# Altium footprint library con-ml.PCBLIB: 41 footprints (part 1 of 3)
Each footprint in its own frame and in the unit in brackets; x right, y up, seen from the top. Pads: shape width x height; smd on the part's side, far side on the other; paste and mask are expansions set on the pad; w line width, h text height; cw(c..) or ccw(c..) is an arc to the next point about the centre after c.
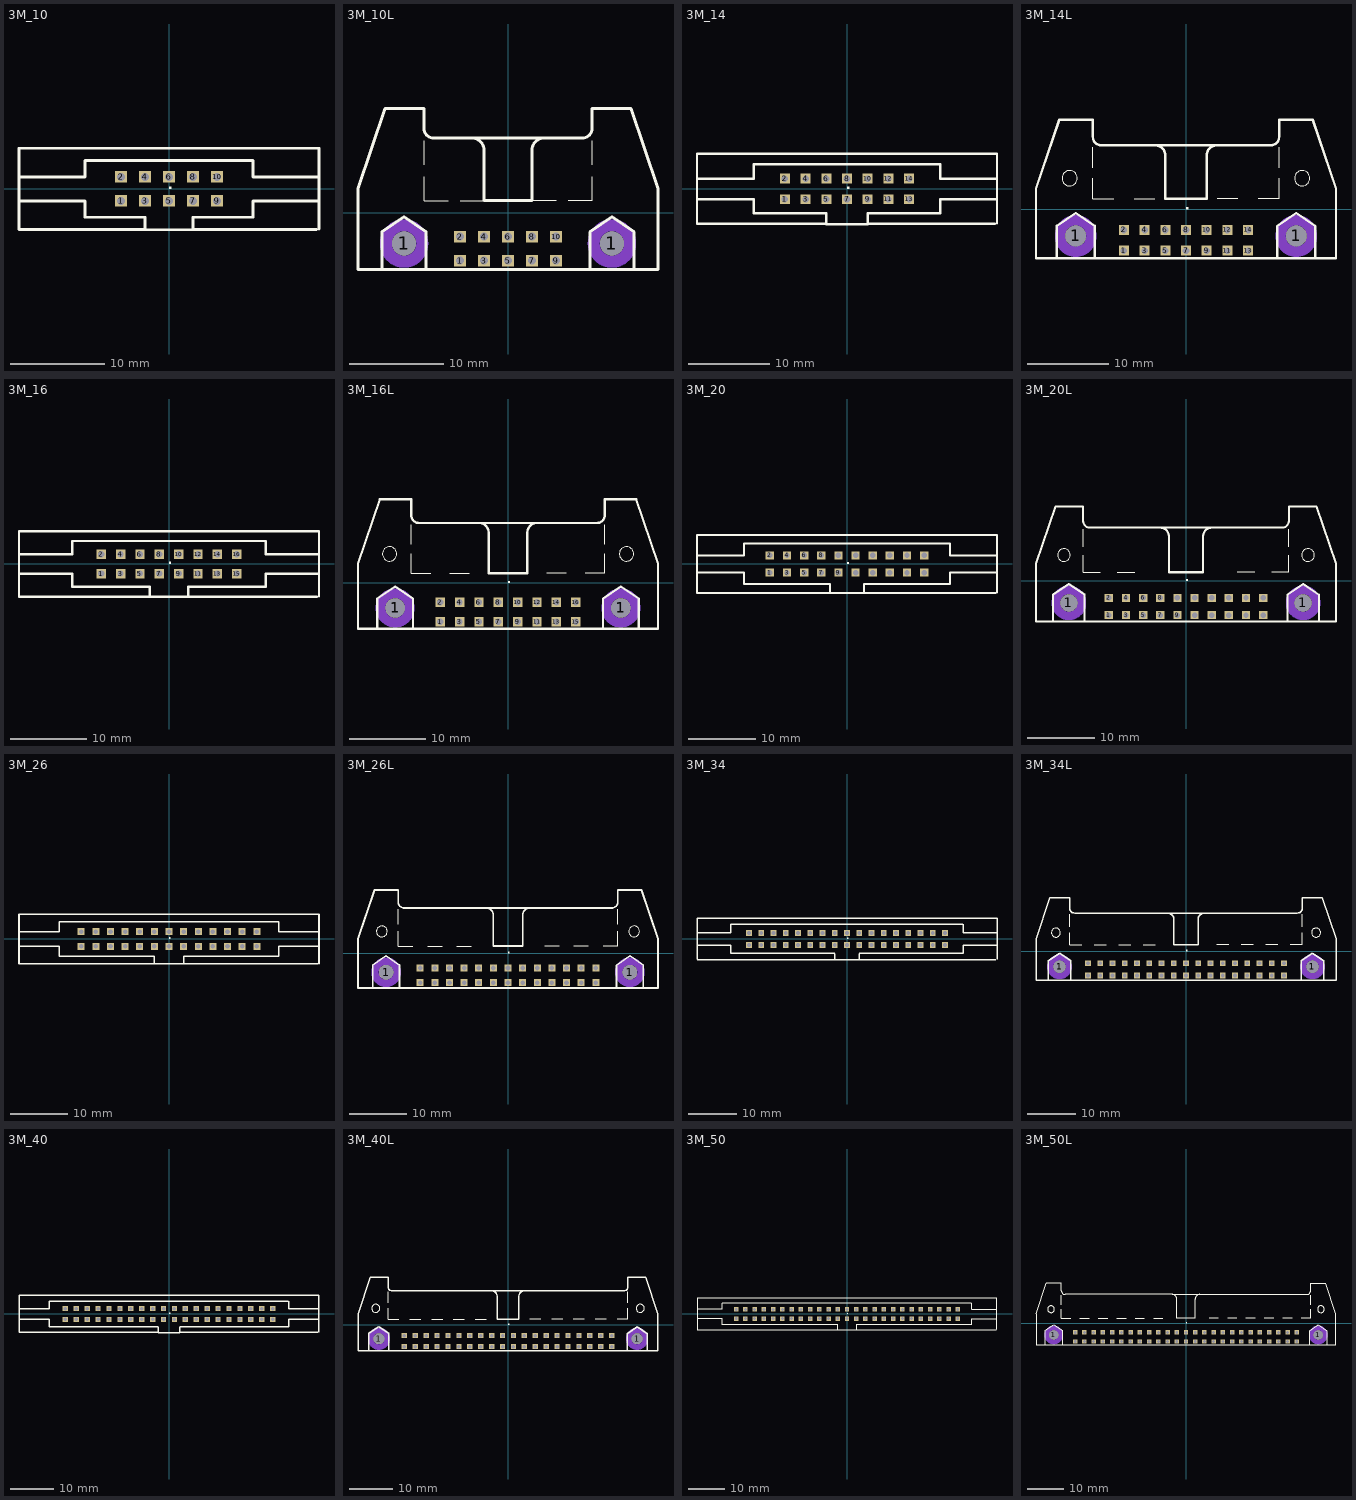
[diagram p0: the footprints below, top view; thin cyan lines are the x and y axes]

## 3M_10 [mil]
pads (10):
  rect 48x48 hole 32: 1(-200,-50) 2(-200,50) 3(-100,-50) 4(-100,50) 5(0,-50) 6(0,50) 7(100,-50) 8(100,50) 9(200,-50) 10(200,50)
Top Overlay:
  region: 0,0 10,0 10,10 0,10
  lines w12: -625,-169.29 -100,-169.29 -100,-120 ; -625,-167 -625,169.29 625,169.29 625,-167 ; -620,-50 -350,-50 -350,-118.11 -100,-118.11 ; -620,50 -350,50 -350,118.11 345,118.11 ; -100,-170 100,-170 ; 100,-120 100,-169.29 615,-169.29 ; 100,-118.11 350,-118.11 350,-50 620,-50 ; 350,118.11 350,50 620,50

## 3M_10L [mil]
pads (12):
  round 100 hole 100: 1(-433,-129) 1(433,-129)
  rect 48x48 hole 32: 1(-200,-200) 2(-200,-100) 3(-100,-200) 4(-100,-100) 5(0,-200) 6(0,-100) 7(100,-200) 8(100,-100) 9(200,-200) 10(200,-100)
Bottom Layer keep-out:
  circle w50: c-433,-129 r76
  circle w50: c433,-129 r76
Top Overlay:
  lines w5: -350,150 -350,50 -250,50 ; -350,200 -350,300 ; -200,50 -100,50 ; 0,50 100,50 200,50 ; 250,50 350,50 350,150 ; 350,200 350,300
  lines w12: -100,260 ccw(c-150,260) -150,310 ; -100,263 -100,50 100,50 100,263 ; 100,260 cw(c150,260) 150,310 ; -525,-237 -625,-237 -625,100 -512,433 -350,433 -350,350 ccw(c-310,350) -310,310 -150,310 ; -525,-237 -525,-80 -433,-18 -341,-80 -341,-237 ; -525,-237 -341,-237 ; -341,-237 341,-237 ; -150,310 310,310 ccw(c310,350) 350,350 350,433 512,433 625,100 625,-237 525,-237 ; 341,-237 341,-81 433,-18 525,-81 525,-237 ; 341,-237 525,-237

## 3M_14 [mil]
pads (14):
  rect 48x48 hole 32: 1(-300,-50) 2(-300,50) 3(-200,-50) 4(-200,50) 5(-100,-50) 6(-100,50) 7(0,-50) 8(0,50) 9(100,-50) 10(100,50) 11(200,-50) 12(200,50) 13(300,-50) 14(300,50)
Top Overlay:
  region: 0,0 10,0 10,10 0,10
  lines w12: -725,-169.29 -100,-169.29 -100,-120 ; -725,-167 -725,169.29 725,169.29 725,-167 ; -720,-50 -450,-50 -450,-118.11 -100,-118.11 ; -720,50 -450,50 -450,118.11 445,118.11 ; -100,-170 100,-170 ; 100,-120 100,-169.29 715,-169.29 ; 100,-118.11 450,-118.11 450,-50 720,-50 ; 450,118.11 450,50 720,50

## 3M_14L [mil]
pads (16):
  round 100 hole 100: 1(-533,-129) 1(533,-129)
  rect 48x48 hole 32: 1(-300,-200) 2(-300,-100) 3(-200,-200) 4(-200,-100) 5(-100,-200) 6(-100,-100) 7(0,-200) 8(0,-100) 9(100,-200) 10(100,-100) 11(200,-200) 12(200,-100) 13(300,-200) 14(300,-100)
Bottom Layer keep-out:
  circle w50: c-533,-129 r76
  circle w50: c533,-129 r76
Top Overlay:
  circle w5: c-562,150 r37
  circle w5: c562,150 r37
  region: 0,0 10,0 10,10 0,10
  lines w5: -450,150 -450,50 -350,50 ; -450,200 -450,300 ; -250,50 -150,50 ; 0,50 100,50 ; 150,50 250,50 ; 350,50 450,50 450,150 ; 450,200 450,300
  lines w12: -100,260 ccw(c-150,260) -150,310 ; -100,263 -100,50 100,50 100,263 ; 100,260 cw(c150,260) 150,310 ; -625,-237 -725,-237 -725,100 -612,433 -450,433 -450,350 ccw(c-410,350) -410,310 -150,310 ; -625,-237 -625,-80 -533,-18 -441,-80 -441,-237 ; -625,-237 -441,-237 ; -441,-237 441,-237 ; -150,310 410,310 ccw(c410,350) 450,350 450,433 612,433 725,100 725,-237 625,-237 ; 441,-237 441,-81 533,-18 625,-81 625,-237 ; 441,-237 625,-237

## 3M_16 [mil]
pads (16):
  rect 48x48 hole 32: 1(-350,-50) 2(-350,50) 3(-250,-50) 4(-250,50) 5(-150,-50) 6(-150,50) 7(-50,-50) 8(-50,50) 9(50,-50) 10(50,50) 11(150,-50) 12(150,50) 13(250,-50) 14(250,50) 15(350,-50) 16(350,50)
Top Overlay:
  region: 0,0 10,0 10,10 0,10
  lines w12: -775,-169.29 -100,-169.29 -100,-120 ; -775,-167 -775,169.29 775,169.29 775,-167 ; -770,-50 -500,-50 -500,-118.11 -100,-118.11 ; -770,50 -500,50 -500,118.11 495,118.11 ; -100,-170 100,-170 ; 100,-120 100,-169.29 765,-169.29 ; 100,-118.11 500,-118.11 500,-50 770,-50 ; 500,118.11 500,50 770,50

## 3M_16L [mil]
pads (18):
  round 100 hole 100: 1(-583,-129) 1(583,-129)
  rect 48x48 hole 32: 1(-350,-200) 2(-350,-100) 3(-250,-200) 4(-250,-100) 5(-150,-200) 6(-150,-100) 7(-50,-200) 8(-50,-100) 9(50,-200) 10(50,-100) 11(150,-200) 12(150,-100) 13(250,-200) 14(250,-100) 15(350,-200) 16(350,-100)
Bottom Layer keep-out:
  circle w50: c-583,-129 r76
  circle w50: c583,-129 r76
Top Overlay:
  circle w5: c-612,150 r37
  circle w5: c612,150 r37
  region: 0,0 10,0 10,10 0,10
  lines w5: -500,150 -500,50 -400,50 ; -500,200 -500,300 ; -300,50 -200,50 ; 0,50 100,50 ; 200,50 300,50 ; 400,50 500,50 500,150 ; 500,200 500,300
  lines w12: -100,260 ccw(c-150,260) -150,310 ; -100,263 -100,50 100,50 100,263 ; 100,260 cw(c150,260) 150,310 ; -675,-237 -775,-237 -775,100 -662,433 -500,433 -500,350 ccw(c-460,350) -460,310 -150,310 ; -675,-237 -675,-80 -583,-18 -491,-80 -491,-237 ; -675,-237 -491,-237 ; -491,-237 491,-237 ; -150,310 460,310 ccw(c460,350) 500,350 500,433 662,433 775,100 775,-237 675,-237 ; 491,-237 491,-81 583,-18 675,-81 675,-237 ; 491,-237 675,-237

## 3M_20 [mil]
pads (20):
  rect 48x48 hole 32: 1(-450,-50) 2(-450,50) 3(-350,-50) 4(-350,50) 5(-250,-50) 6(-250,50) 7(-150,-50) 8(-150,50) 9(-50,-50) 10(-50,50) 11(50,-50) 12(50,50) 13(150,-50) 14(150,50) 15(250,-50) 16(250,50) 17(350,-50) 18(350,50) 19(450,-50) 20(450,50)
Top Overlay:
  region: 0,0 10,0 10,10 0,10
  lines w12: -875,-169.29 -100,-169.29 -100,-120 ; -875,-167 -875,169.29 875,169.29 875,-167 ; -870,-50 -600,-50 -600,-118.11 -100,-118.11 ; -870,50 -600,50 -600,118.11 595,118.11 ; -100,-170 100,-170 ; 100,-120 100,-169.29 865,-169.29 ; 100,-118.11 600,-118.11 600,-50 870,-50 ; 600,118.11 600,50 870,50

## 3M_20L [mil]
pads (22):
  round 100 hole 100: 1(-683,-129) 1(683,-129)
  rect 48x48 hole 32: 1(-450,-200) 2(-450,-100) 3(-350,-200) 4(-350,-100) 5(-250,-200) 6(-250,-100) 7(-150,-200) 8(-150,-100) 9(-50,-200) 10(-50,-100) 11(50,-200) 12(50,-100) 13(150,-200) 14(150,-100) 15(250,-200) 16(250,-100) 17(350,-200) 18(350,-100) 19(450,-200) 20(450,-100)
Bottom Layer keep-out:
  circle w50: c-683,-129 r76
  circle w50: c683,-129 r76
Top Overlay:
  circle w5: c-712,150 r37
  circle w5: c712,150 r37
  region: 0,0 10,0 10,10 0,10
  lines w5: -600,150 -600,50 -500,50 ; -600,200 -600,300 ; -400,50 -300,50 ; 0,50 100,50 ; 300,50 400,50 ; 500,50 600,50 600,150 ; 600,200 600,300
  lines w12: -100,260 ccw(c-150,260) -150,310 ; -100,263 -100,50 100,50 100,263 ; 100,260 cw(c150,260) 150,310 ; -775,-237 -875,-237 -875,100 -762,433 -600,433 -600,350 ccw(c-560,350) -560,310 -150,310 ; -775,-237 -775,-80 -683,-18 -591,-80 -591,-237 ; -775,-237 -591,-237 ; -591,-237 591,-237 ; -150,310 560,310 ccw(c560,350) 600,350 600,433 762,433 875,100 875,-237 775,-237 ; 591,-237 591,-81 683,-18 775,-81 775,-237 ; 591,-237 775,-237

## 3M_26 [mil]
pads (26):
  rect 48x48 hole 32: 1(-600,-50) 2(-600,50) 3(-500,-50) 4(-500,50) 5(-400,-50) 6(-400,50) 7(-300,-50) 8(-300,50) 9(-200,-50) 10(-200,50) 11(-100,-50) 12(-100,50) 13(0,-50) 14(0,50) 15(100,-50) 16(100,50) 17(200,-50) 18(200,50) 19(300,-50) 20(300,50) 21(400,-50) 22(400,50) 23(500,-50) 24(500,50) 25(600,-50) 26(600,50)
Top Overlay:
  region: 0,0 10,0 10,10 0,10
  lines w12: -1025,-169.29 -100,-169.29 -100,-120 ; -1025,-167 -1025,169.29 1025,169.29 1025,-167 ; -1020,-50 -750,-50 -750,-118.11 -100,-118.11 ; -1020,50 -750,50 -750,118.11 745,118.11 ; -100,-170 100,-170 ; 100,-120 100,-169.29 1015,-169.29 ; 100,-118.11 750,-118.11 750,-50 1020,-50 ; 750,118.11 750,50 1020,50

## 3M_26L [mil]
pads (28):
  round 100 hole 100: 1(-833,-129) 1(833,-129)
  rect 48x48 hole 32: 1(-600,-200) 2(-600,-100) 3(-500,-200) 4(-500,-100) 5(-400,-200) 6(-400,-100) 7(-300,-200) 8(-300,-100) 9(-200,-200) 10(-200,-100) 11(-100,-200) 12(-100,-100) 13(0,-200) 14(0,-100) 15(100,-200) 16(100,-100) 17(200,-200) 18(200,-100) 19(300,-200) 20(300,-100) 21(400,-200) 22(400,-100) 23(500,-200) 24(500,-100) 25(600,-200) 26(600,-100)
Bottom Layer keep-out:
  circle w50: c-833,-129 r76
  circle w50: c833,-129 r76
Top Overlay:
  circle w5: c-862,150 r37
  circle w5: c862,150 r37
  region: 0,0 10,0 10,10 0,10
  lines w5: -750,150 -750,50 -650,50 ; -750,200 -750,300 ; -550,50 -450,50 ; -350,50 -250,50 ; 0,50 100,50 ; 250,50 350,50 ; 450,50 550,50 ; 650,50 750,50 750,150 ; 750,200 750,300
  lines w12: -100,260 ccw(c-150,260) -150,310 ; -100,263 -100,50 100,50 100,263 ; 100,260 cw(c150,260) 150,310 ; -925,-237 -1025,-237 -1025,100 -912,433 -750,433 -750,350 ccw(c-710,350) -710,310 -150,310 ; -925,-237 -925,-80 -833,-18 -741,-80 -741,-237 ; -925,-237 -741,-237 ; -741,-237 741,-237 ; -150,310 710,310 ccw(c710,350) 750,350 750,433 912,433 1025,100 1025,-237 925,-237 ; 741,-237 741,-81 833,-18 925,-81 925,-237 ; 741,-237 925,-237

## 3M_34 [mil]
pads (34):
  rect 48x48 hole 32: 1(-800,-50) 2(-800,50) 3(-700,-50) 4(-700,50) 5(-600,-50) 6(-600,50) 7(-500,-50) 8(-500,50) 9(-400,-50) 10(-400,50) 11(-300,-50) 12(-300,50) 13(-200,-50) 14(-200,50) 15(-100,-50) 16(-100,50) 17(0,-50) 18(0,50) 19(100,-50) 20(100,50) 21(200,-50) 22(200,50) 23(300,-50) 24(300,50) 25(400,-50) 26(400,50) 27(500,-50) 28(500,50) 29(600,-50) 30(600,50) 31(700,-50) 32(700,50) 33(800,-50) 34(800,50)
Top Overlay:
  region: 0,0 10,0 10,10 0,10
  lines w12: -1225,-169.29 -100,-169.29 -100,-120 ; -1225,-167 -1225,169.29 1225,169.29 1225,-167 ; -1220,-50 -950,-50 -950,-118.11 -100,-118.11 ; -1220,50 -950,50 -950,118.11 945,118.11 ; -100,-170 100,-170 ; 100,-120 100,-169.29 1215,-169.29 ; 100,-118.11 950,-118.11 950,-50 1220,-50 ; 950,118.11 950,50 1220,50

## 3M_34L [mil]
pads (36):
  round 100 hole 100: 1(-1033,-129) 1(1033,-129)
  rect 48x48 hole 32: 1(-800,-200) 2(-800,-100) 3(-700,-200) 4(-700,-100) 5(-600,-200) 6(-600,-100) 7(-500,-200) 8(-500,-100) 9(-400,-200) 10(-400,-100) 11(-300,-200) 12(-300,-100) 13(-200,-200) 14(-200,-100) 15(-100,-200) 16(-100,-100) 17(0,-200) 18(0,-100) 19(100,-200) 20(100,-100) 21(200,-200) 22(200,-100) 23(300,-200) 24(300,-100) 25(400,-200) 26(400,-100) 27(500,-200) 28(500,-100) 29(600,-200) 30(600,-100) 31(700,-200) 32(700,-100) 33(800,-200) 34(800,-100)
Bottom Layer keep-out:
  circle w50: c-1033,-129 r76
  circle w50: c1033,-129 r76
Top Overlay:
  circle w5: c-1062,150 r37
  circle w5: c1062,150 r37
  region: 0,0 10,0 10,10 0,10
  lines w5: -950,150 -950,50 -850,50 ; -950,200 -950,300 ; -750,50 -650,50 ; -550,50 -450,50 ; -350,50 -250,50 ; 0,50 100,50 ; 250,50 350,50 ; 450,50 550,50 ; 650,50 750,50 ; 850,50 950,50 950,150 ; 950,200 950,300
  lines w12: -100,260 ccw(c-150,260) -150,310 ; -100,263 -100,50 100,50 100,263 ; 100,260 cw(c150,260) 150,310 ; -1125,-237 -1225,-237 -1225,100 -1112,433 -950,433 -950,350 ccw(c-910,350) -910,310 -150,310 ; -1125,-237 -1125,-80 -1033,-18 -941,-80 -941,-237 ; -1125,-237 -941,-237 ; -941,-237 941,-237 ; -150,310 910,310 ccw(c910,350) 950,350 950,433 1112,433 1225,100 1225,-237 1125,-237 ; 941,-237 941,-81 1033,-18 1125,-81 1125,-237 ; 941,-237 1125,-237

## 3M_40 [mil]
pads (40):
  rect 48x48 hole 32: 1(-950,-50) 2(-950,50) 3(-850,-50) 4(-850,50) 5(-750,-50) 6(-750,50) 7(-650,-50) 8(-650,50) 9(-550,-50) 10(-550,50) 11(-450,-50) 12(-450,50) 13(-350,-50) 14(-350,50) 15(-250,-50) 16(-250,50) 17(-150,-50) 18(-150,50) 19(-50,-50) 20(-50,50) 21(50,-50) 22(50,50) 23(150,-50) 24(150,50) 25(250,-50) 26(250,50) 27(350,-50) 28(350,50) 29(450,-50) 30(450,50) 31(550,-50) 32(550,50) 33(650,-50) 34(650,50) 35(750,-50) 36(750,50) 37(850,-50) 38(850,50) 39(950,-50) 40(950,50)
Top Overlay:
  region: 0,0 10,0 10,10 0,10
  lines w12: -1375,-169.29 -100,-169.29 -100,-120 ; -1375,-167 -1375,169.29 1375,169.29 1375,-167 ; -1370,-50 -1100,-50 -1100,-118.11 -100,-118.11 ; -1370,50 -1100,50 -1100,118.11 1095,118.11 ; -100,-170 100,-170 ; 100,-120 100,-169.29 1365,-169.29 ; 100,-118.11 1100,-118.11 1100,-50 1370,-50 ; 1100,118.11 1100,50 1370,50

## 3M_40L [mil]
pads (42):
  round 100 hole 100: 1(-1183,-129) 1(1183,-129)
  rect 48x48 hole 32: 1(-950,-200) 2(-950,-100) 3(-850,-200) 4(-850,-100) 5(-750,-200) 6(-750,-100) 7(-650,-200) 8(-650,-100) 9(-550,-200) 10(-550,-100) 11(-450,-200) 12(-450,-100) 13(-350,-200) 14(-350,-100) 15(-250,-200) 16(-250,-100) 17(-150,-200) 18(-150,-100) 19(-50,-200) 20(-50,-100) 21(50,-200) 22(50,-100) 23(150,-200) 24(150,-100) 25(250,-200) 26(250,-100) 27(350,-200) 28(350,-100) 29(450,-200) 30(450,-100) 31(550,-200) 32(550,-100) 33(650,-200) 34(650,-100) 35(750,-200) 36(750,-100) 37(850,-200) 38(850,-100) 39(950,-200) 40(950,-100)
Bottom Layer keep-out:
  circle w50: c-1183,-129 r76
  circle w50: c1183,-129 r76
Top Overlay:
  circle w5: c-1212,150 r37
  circle w5: c1212,150 r37
  region: 0,0 10,0 10,10 0,10
  lines w5: -1100,150 -1100,50 -1000,50 ; -1100,200 -1100,300 ; -900,50 -800,50 ; -700,50 -600,50 ; -500,50 -400,50 ; -300,50 -200,50 ; 0,50 100,50 ; 200,50 300,50 ; 400,50 500,50 ; 600,50 700,50 ; 800,50 900,50 ; 1000,50 1100,50 1100,150 ; 1100,200 1100,300
  lines w12: -100,260 ccw(c-150,260) -150,310 ; -100,263 -100,50 100,50 100,263 ; 100,260 cw(c150,260) 150,310 ; -1275,-237 -1375,-237 -1375,100 -1262,433 -1100,433 -1100,350 ccw(c-1060,350) -1060,310 -150,310 ; -1275,-237 -1275,-80 -1183,-18 -1091,-80 -1091,-237 ; -1275,-237 -1091,-237 ; -1091,-237 1091,-237 ; -150,310 1060,310 ccw(c1060,350) 1100,350 1100,433 1262,433 1375,100 1375,-237 1275,-237 ; 1091,-237 1091,-81 1183,-18 1275,-81 1275,-237 ; 1091,-237 1275,-237

## 3M_50 [mil]
pads (50):
  rect 48x48 hole 32: 1(-1200,-50) 2(-1200,50) 3(-1100,-50) 4(-1100,50) 5(-1000,-50) 6(-1000,50) 7(-900,-50) 8(-900,50) 9(-800,-50) 10(-800,50) 11(-700,-50) 12(-700,50) 13(-600,-50) 14(-600,50) 15(-500,-50) 16(-500,50) 17(-400,-50) 18(-400,50) 19(-300,-50) 20(-300,50) 21(-200,-50) 22(-200,50) 23(-100,-50) 24(-100,50) 25(0,-50) 26(0,50) 27(100,-50) 28(100,50) 29(200,-50) 30(200,50) 31(300,-50) 32(300,50) 33(400,-50) 34(400,50) 35(500,-50) 36(500,50) 37(600,-50) 38(600,50) 39(700,-50) 40(700,50) 41(800,-50) 42(800,50) 43(900,-50) 44(900,50) 45(1000,-50) 46(1000,50) 47(1100,-50) 48(1100,50) 49(1200,-50) 50(1200,50)
Top Overlay:
  region: 0,0 10,0 10,10 0,10
  lines w12: -1625,-169.29 -100,-169.29 -100,-120 ; -1625,-167 -1625,169.29 1625,169.29 1625,-167 ; -1620,-50 -1350,-50 -1350,-118.11 -100,-118.11 ; -1620,50 -1350,50 -1350,118.11 1345,118.11 ; -100,-170 100,-170 ; 100,-120 100,-169.29 1615,-169.29 ; 100,-118.11 1350,-118.11 1350,-50 1620,-50 ; 1350,118.11 1350,50 1620,50

## 3M_50L [mil]
pads (52):
  round 100 hole 100: 1(-1433,-129) 1(1433,-129)
  rect 48x48 hole 32: 1(-1200,-200) 2(-1200,-100) 3(-1100,-200) 4(-1100,-100) 5(-1000,-200) 6(-1000,-100) 7(-900,-200) 8(-900,-100) 9(-800,-200) 10(-800,-100) 11(-700,-200) 12(-700,-100) 13(-600,-200) 14(-600,-100) 15(-500,-200) 16(-500,-100) 17(-400,-200) 18(-400,-100) 19(-300,-200) 20(-300,-100) 21(-200,-200) 22(-200,-100) 23(-100,-200) 24(-100,-100) 25(0,-200) 26(0,-100) 27(100,-200) 28(100,-100) 29(200,-200) 30(200,-100) 31(300,-200) 32(300,-100) 33(400,-200) 34(400,-100) 35(500,-200) 36(500,-100) 37(600,-200) 38(600,-100) 39(700,-200) 40(700,-100) 41(800,-200) 42(800,-100) 43(900,-200) 44(900,-100) 45(1000,-200) 46(1000,-100) 47(1100,-200) 48(1100,-100) 49(1200,-200) 50(1200,-100)
Bottom Layer keep-out:
  circle w50: c-1433,-129 r76
  circle w50: c1433,-129 r76
Top Overlay:
  circle w5: c-1462,150 r37
  circle w5: c1462,150 r37
  region: 0,0 10,0 10,10 0,10
  lines w5: -1350,150 -1350,50 -1250,50 ; -1350,200 -1350,300 ; -1150,50 -1050,50 ; -950,50 -850,50 ; -750,50 -650,50 ; -550,50 -450,50 ; -350,50 -250,50 ; 250,50 350,50 ; 450,50 550,50 ; 650,50 750,50 ; 850,50 950,50 ; 1050,50 1150,50 ; 1250,50 1350,50 1350,150 ; 1350,200 1350,300
  lines w12: -100,260 ccw(c-150,260) -150,310 ; -100,263 -100,50 100,50 100,263 ; 100,260 cw(c150,260) 150,310 ; -1525,-237 -1625,-237 -1625,100 -1512,433 -1350,433 -1350,350 ccw(c-1310,350) -1310,310 -150,310 ; -1525,-237 -1525,-80 -1433,-18 -1341,-80 -1341,-237 ; -1525,-237 -1341,-237 ; -1341,-237 1341,-237 ; -150,310 1310,310 ccw(c1310,350) 1350,350 1350,433 1512,433 1625,100 1625,-237 1525,-237 ; 1341,-237 1341,-81 1433,-18 1525,-81 1525,-237 ; 1341,-237 1525,-237